# EAGLE library part NRF5340-QKAA-AB0-R (library graftel-internal-ic)
IC RF
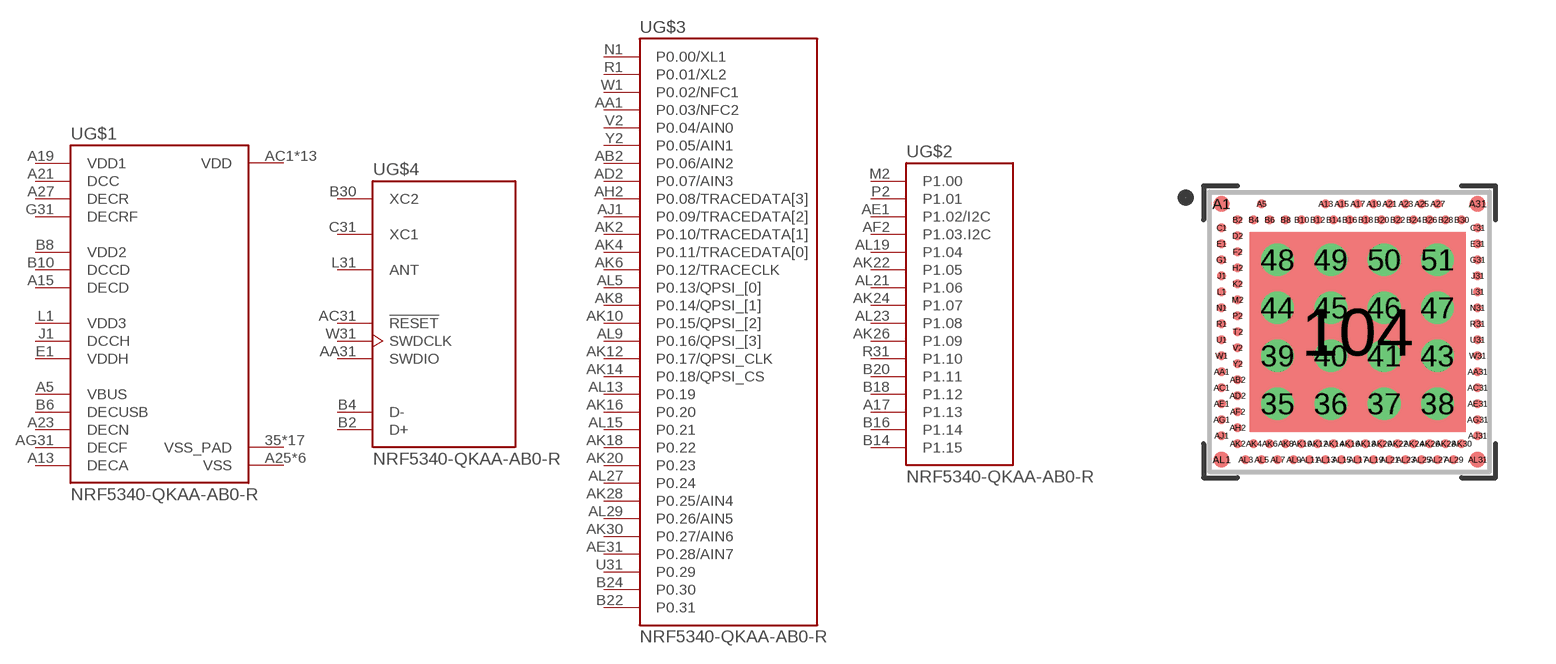
[diagram p94: symbol with the pads of XCVR_NRF5340-QKAA-AB0-R; footprint XCVR_NRF5340-QKAA-AB0-R]

Designator prefix U; gates G$1=NRF5340-QKAA-AB0-R_SECTION1 G$4=NRF5340-QKAA-AB0-R_SECTION2 G$3=NRF5340-QKAA-AB0-R_SECTION3 G$2=NRF5340-QKAA-AB0-R_SECTION4

## NRF5340-QKAA-AB0-R (AVAILABILITY: Unavailable; DESCRIPTION: IC RF TxRx + MCU 802.15.4, Bluetooth Bluetooth v5.1, Thread, Zigbee® 2.4GHz; MF: Nordic Semiconductor; MP: nRF5340-QKAA-AB0-R; PACKAGE: None; PRICE: None)  [XCVR_NRF5340-QKAA-AB0-R]
35  G$1:VSS_PAD  pwr
36  G$1:VSS_PAD  pwr
37  G$1:VSS_PAD  pwr
38  G$1:VSS_PAD  pwr
39  G$1:VSS_PAD  pwr
40  G$1:VSS_PAD  pwr
41  G$1:VSS_PAD  pwr
43  G$1:VSS_PAD  pwr
44  G$1:VSS_PAD  pwr
45  G$1:VSS_PAD  pwr
46  G$1:VSS_PAD  pwr
47  G$1:VSS_PAD  pwr
48  G$1:VSS_PAD  pwr
49  G$1:VSS_PAD  pwr
50  G$1:VSS_PAD  pwr
51  G$1:VSS_PAD  pwr
104  G$1:VSS_PAD  pwr
A5  G$1:VBUS  pwr
A13  G$1:DECA  pwr
A15  G$1:DECD  pwr
A17  G$2:P1.13
A19  G$1:VDD1  pwr
A21  G$1:DCC  out
A23  G$1:DECN  pwr
A25  G$1:VSS  pwr
A27  G$1:DECR  pwr
AA1  G$3:P0.03/NFC2
AA31  G$4:SWDIO
AB2  G$3:P0.06/AIN2
AC1  G$1:VDD  pwr
AC31  G$4:!RESET  in
AD2  G$3:P0.07/AIN3
AE1  G$2:P1.02/I2C
AE31  G$3:P0.28/AIN7
AF2  G$2:P1.03.I2C
AG1  G$1:VDD  pwr
AG31  G$1:DECF  pwr
AH2  G$3:P0.08/TRACEDATA[3]
AJ1  G$3:P0.09/TRACEDATA[2]
AJ31  G$1:VDD  pwr
AK2  G$3:P0.10/TRACEDATA[1]
AK4  G$3:P0.11/TRACEDATA[0]
AK6  G$3:P0.12/TRACECLK
AK8  G$3:P0.14/QPSI_[1]
AK10  G$3:P0.15/QPSI_[2]
AK12  G$3:P0.17/QPSI_CLK
AK14  G$3:P0.18/QPSI_CS
AK16  G$3:P0.20
AK18  G$3:P0.22
AK20  G$3:P0.23
AK22  G$2:P1.05
AK24  G$2:P1.07
AK26  G$2:P1.09
AK28  G$3:P0.25/AIN4
AK30  G$3:P0.27/AIN6
AL3  G$1:VDD  pwr
AL5  G$3:P0.13/QPSI_[0]
AL7  G$1:VDD  pwr
AL9  G$3:P0.16/QPSI_[3]
AL11  G$1:VDD  pwr
AL13  G$3:P0.19
AL15  G$3:P0.21
AL17  G$1:VDD  pwr
AL19  G$2:P1.04
AL21  G$2:P1.06
AL23  G$2:P1.08
AL25  G$1:VDD  pwr
AL27  G$3:P0.24
AL29  G$3:P0.26/AIN5
B2  G$4:D+
B4  G$4:D-
B6  G$1:DECUSB  pwr
B8  G$1:VDD2  pwr
B10  G$1:DCCD  pwr
B12  G$1:VSS  pwr
B14  G$2:P1.15
B16  G$2:P1.14
B18  G$2:P1.12
B20  G$2:P1.11
B22  G$3:P0.31
B24  G$3:P0.30
B26  G$1:VSS  pwr
B28  G$1:VDD  pwr
B30  G$4:XC2  out
C1  G$1:VDD  pwr
C31  G$4:XC1  in
E1  G$1:VDDH  pwr
E31  G$1:VDD  pwr
G1  G$1:VSS  pwr
G31  G$1:DECRF  pwr
H2  G$1:VSS  pwr
J1  G$1:DCCH  pwr
J31  G$1:VSS  pwr
L1  G$1:VDD3  pwr
L31  G$4:ANT
M2  G$2:P1.00
N1  G$3:P0.00/XL1
N31  G$1:VDD  pwr
P2  G$2:P1.01
R1  G$3:P0.01/XL2
R31  G$2:P1.10
U1  G$1:VDD  pwr
U31  G$3:P0.29
V2  G$3:P0.04/AIN0
W1  G$3:P0.02/NFC1
W31  G$4:SWDCLK  in
Y2  G$3:P0.05/AIN1

## Footprint XCVR_NRF5340-QKAA-AB0-R (pad centres in mm)
Original name AQFN40P700X700X85_HS-99N
drill 0.305 pad 0.61: 35 -1.8,-1.8; 36 -0.467,-1.8; 37 0.867,-1.8; 38 2.2,-1.8; 39 -1.8,-0.6; 40 -0.467,-0.6; 41 0.867,-0.6; 43 2.2,-0.6; 44 -1.8,0.6; 45 -0.467,0.6; 46 0.867,0.6; 47 2.2,0.6; 48 -1.8,1.8; 49 -0.467,1.8; 50 0.867,1.8; 51 2.2,1.8
smd 5.4 x 5: 104 0.2,0
smd 0.4 x 0.4: A1 -3.2,3.2; A31 3.2,3.2; AL1 -3.2,-3.2; AL31 3.2,-3.2
smd 0.225 x 0.225: A5 -2.2,3.2; A13 -0.6,3.2; A15 -0.2,3.2; A17 0.2,3.2; A19 0.6,3.2; A21 1,3.2; A23 1.4,3.2; A25 1.8,3.2; A27 2.2,3.2; AA1 -3.2,-1; AA31 3.2,-1; AB2 -2.8,-1.2; AC1 -3.2,-1.4; AC31 3.2,-1.4; AD2 -2.8,-1.6; AE1 -3.2,-1.8; AE31 3.2,-1.8; AF2 -2.8,-2; AG1 -3.2,-2.2; AG31 3.2,-2.2; AH2 -2.8,-2.4; AJ1 -3.2,-2.6; AJ31 3.2,-2.6; AK2 -2.8,-2.8; AK4 -2.4,-2.8; AK6 -2,-2.8; AK8 -1.6,-2.8; AK10 -1.2,-2.8; AK12 -0.8,-2.8; AK14 -0.4,-2.8; AK16 0,-2.8; AK18 0.4,-2.8; AK20 0.8,-2.8; AK22 1.2,-2.8; AK24 1.6,-2.8; AK26 2,-2.8; AK28 2.4,-2.8; AK30 2.8,-2.8; AL3 -2.6,-3.2; AL5 -2.2,-3.2; AL7 -1.8,-3.2; AL9 -1.4,-3.2; AL11 -1,-3.2; AL13 -0.6,-3.2; AL15 -0.2,-3.2; AL17 0.2,-3.2; AL19 0.6,-3.2; AL21 1,-3.2; AL23 1.4,-3.2; AL25 1.8,-3.2; AL27 2.2,-3.2; AL29 2.6,-3.2; B2 -2.8,2.8; B4 -2.4,2.8; B6 -2,2.8; B8 -1.6,2.8; B10 -1.2,2.8; B12 -0.8,2.8; B14 -0.4,2.8; B16 0,2.8; B18 0.4,2.8; B20 0.8,2.8; B22 1.2,2.8; B24 1.6,2.8; B26 2,2.8; B28 2.4,2.8; B30 2.8,2.8; C1 -3.2,2.6; C31 3.2,2.6; D2 -2.8,2.4; E1 -3.2,2.2; E31 3.2,2.2; F2 -2.8,2; G1 -3.2,1.8; G31 3.2,1.8; H2 -2.8,1.6; J1 -3.2,1.4; J31 3.2,1.4; K2 -2.8,1.2; L1 -3.2,1; L31 3.2,1; M2 -2.8,0.8; N1 -3.2,0.6; N31 3.2,0.6; P2 -2.8,0.4; R1 -3.2,0.2; R31 3.2,0.2; T2 -2.8,0; U1 -3.2,-0.2; U31 3.2,-0.2; V2 -2.8,-0.4; W1 -3.2,-0.6; W31 3.2,-0.6; Y2 -2.8,-0.8